# EAGLE library part S70FL01GSAGMFI011 (library MadeInTheUSB_Cypress_Flash_SOIC16)
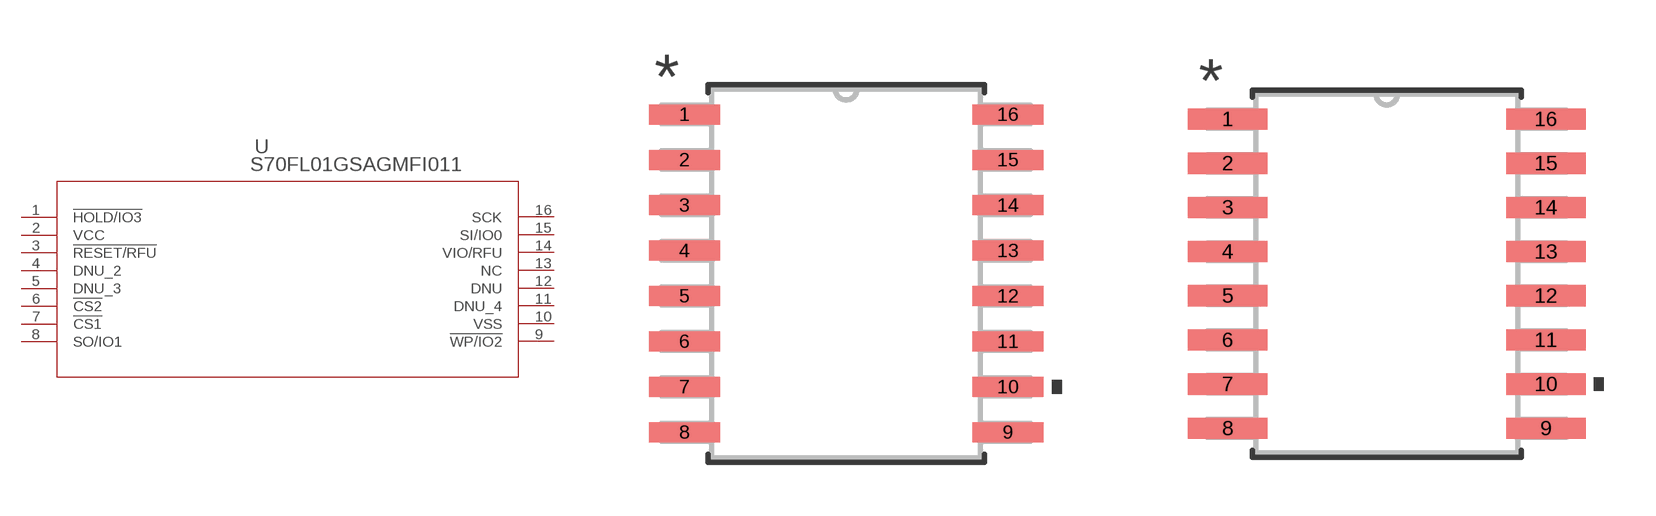
[diagram p0: symbol with the pads of SL3016; footprints SL3016, SL3016-M]

Designator prefix U

## S70FL01GSAGMFI011 (MANUFACTURER_PART_NUMBER: S70FL01GSAGMFI011; VENDOR: SPANSION)  [SL3016]
1  !HOLD/IO3
2  VCC  pwr
3  !RESET/RFU  pas
4  DNU_2  nc
5  DNU_3  nc
6  !CS2  in
7  !CS1  in
8  SO/IO1
9  !WP/IO2
10  VSS  pwr
11  DNU_4  nc
12  DNU  nc
13  NC  nc
14  VIO/RFU
15  SI/IO0
16  SCK  in

## S70FL01GSAGMFI011SL3016-M (MANUFACTURER_PART_NUMBER: S70FL01GSAGMFI011; VENDOR: SPANSION)  [SL3016-M]
Pads as for SL3016

## S70FL01GSAGMFI011SL3016-L (MANUFACTURER_PART_NUMBER: S70FL01GSAGMFI011; VENDOR: SPANSION)  [SL3016-L]
Pads as for SL3016

## Footprint SL3016 (pad centres in mm)
smd 1.981 x 0.559: 1 -4.521,4.445; 2 -4.521,3.175; 3 -4.521,1.905; 4 -4.521,0.635; 5 -4.521,-0.635; 6 -4.521,-1.905; 7 -4.521,-3.175; 8 -4.521,-4.445; 9 4.521,-4.445; 10 4.521,-3.175; 11 4.521,-1.905; 12 4.521,-0.635; 13 4.521,0.635; 14 4.521,1.905; 15 4.521,3.175; 16 4.521,4.445

## Footprint SL3016-M (pad centres in mm)
smd 2.286 x 0.61: 1 -4.572,4.445; 2 -4.572,3.175; 3 -4.572,1.905; 4 -4.572,0.635; 5 -4.572,-0.635; 6 -4.572,-1.905; 7 -4.572,-3.175; 8 -4.572,-4.445; 9 4.572,-4.445; 10 4.572,-3.175; 11 4.572,-1.905; 12 4.572,-0.635; 13 4.572,0.635; 14 4.572,1.905; 15 4.572,3.175; 16 4.572,4.445

## Footprint SL3016-L (pad centres in mm)
smd 1.676 x 0.508: 1 -4.47,4.445; 2 -4.47,3.175; 3 -4.47,1.905; 4 -4.47,0.635; 5 -4.47,-0.635; 6 -4.47,-1.905; 7 -4.47,-3.175; 8 -4.47,-4.445; 9 4.47,-4.445; 10 4.47,-3.175; 11 4.47,-1.905; 12 4.47,-0.635; 13 4.47,0.635; 14 4.47,1.905; 15 4.47,3.175; 16 4.47,4.445